# Altium footprint library XT30PWM.PcbLib: 1 footprints
Each footprint in its own frame and in the unit in brackets; x right, y up, seen from the top. Pads: shape width x height; smd on the part's side, far side on the other; paste and mask are expansions set on the pad; w line width, h text height; cw(c..) or ccw(c..) is an arc to the next point about the centre after c.
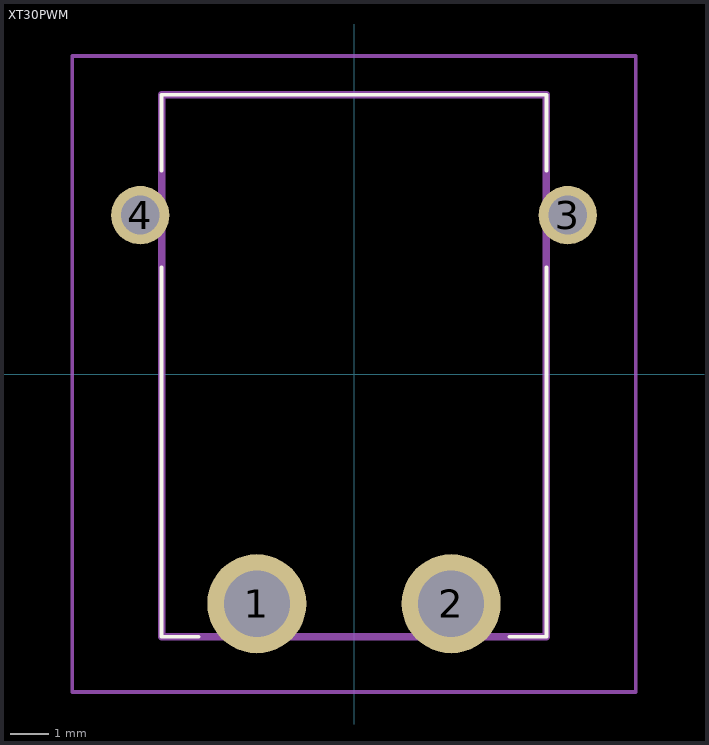
[diagram p0: the footprint, top view; thin cyan lines are the x and y axes]

## XT30PWM [mm]
pads (4):
  round 2.55 hole 1.7: 1(-2.5,-5.912) 2(2.5,-5.912)
  round 1.5 hole 1: 3(5.5,4.088) 4(-5.5,4.088)
Top Overlay:
  lines w0.1: -4.95,2.737 -4.95,-6.762 -4,-6.762 ; -4.95,5.237 -4.95,7.187 4.95,7.187 4.95,5.237 ; 4,-6.762 4.95,-6.762 4.95,2.737
Mechanical 15:
  lines w0.2: -4.95,-6.762 4.95,-6.762 4.95,7.187 -4.95,7.187 -4.95,-6.762
Mechanical 20:
  lines w0.1: -7.25,-8.188 7.25,-8.188 7.25,8.188 -7.25,8.188 -7.25,-8.188
3D body "XT30PW-M.stp": height 5.1, standoff -2.4, extent -6.65,-6.855 6.65,7.095